# Altium footprint library IPC-7355 QFP_Shrink_Sq_50P_Side_M.PcbLib: 26 footprints (part 1 of 3)
Each footprint in its own frame and in the unit in brackets; x right, y up, seen from the top. Pads: shape width x height; smd on the part's side, far side on the other; paste and mask are expansions set on the pad; w line width, h text height; cw(c..) or ccw(c..) is an arc to the next point about the centre after c.
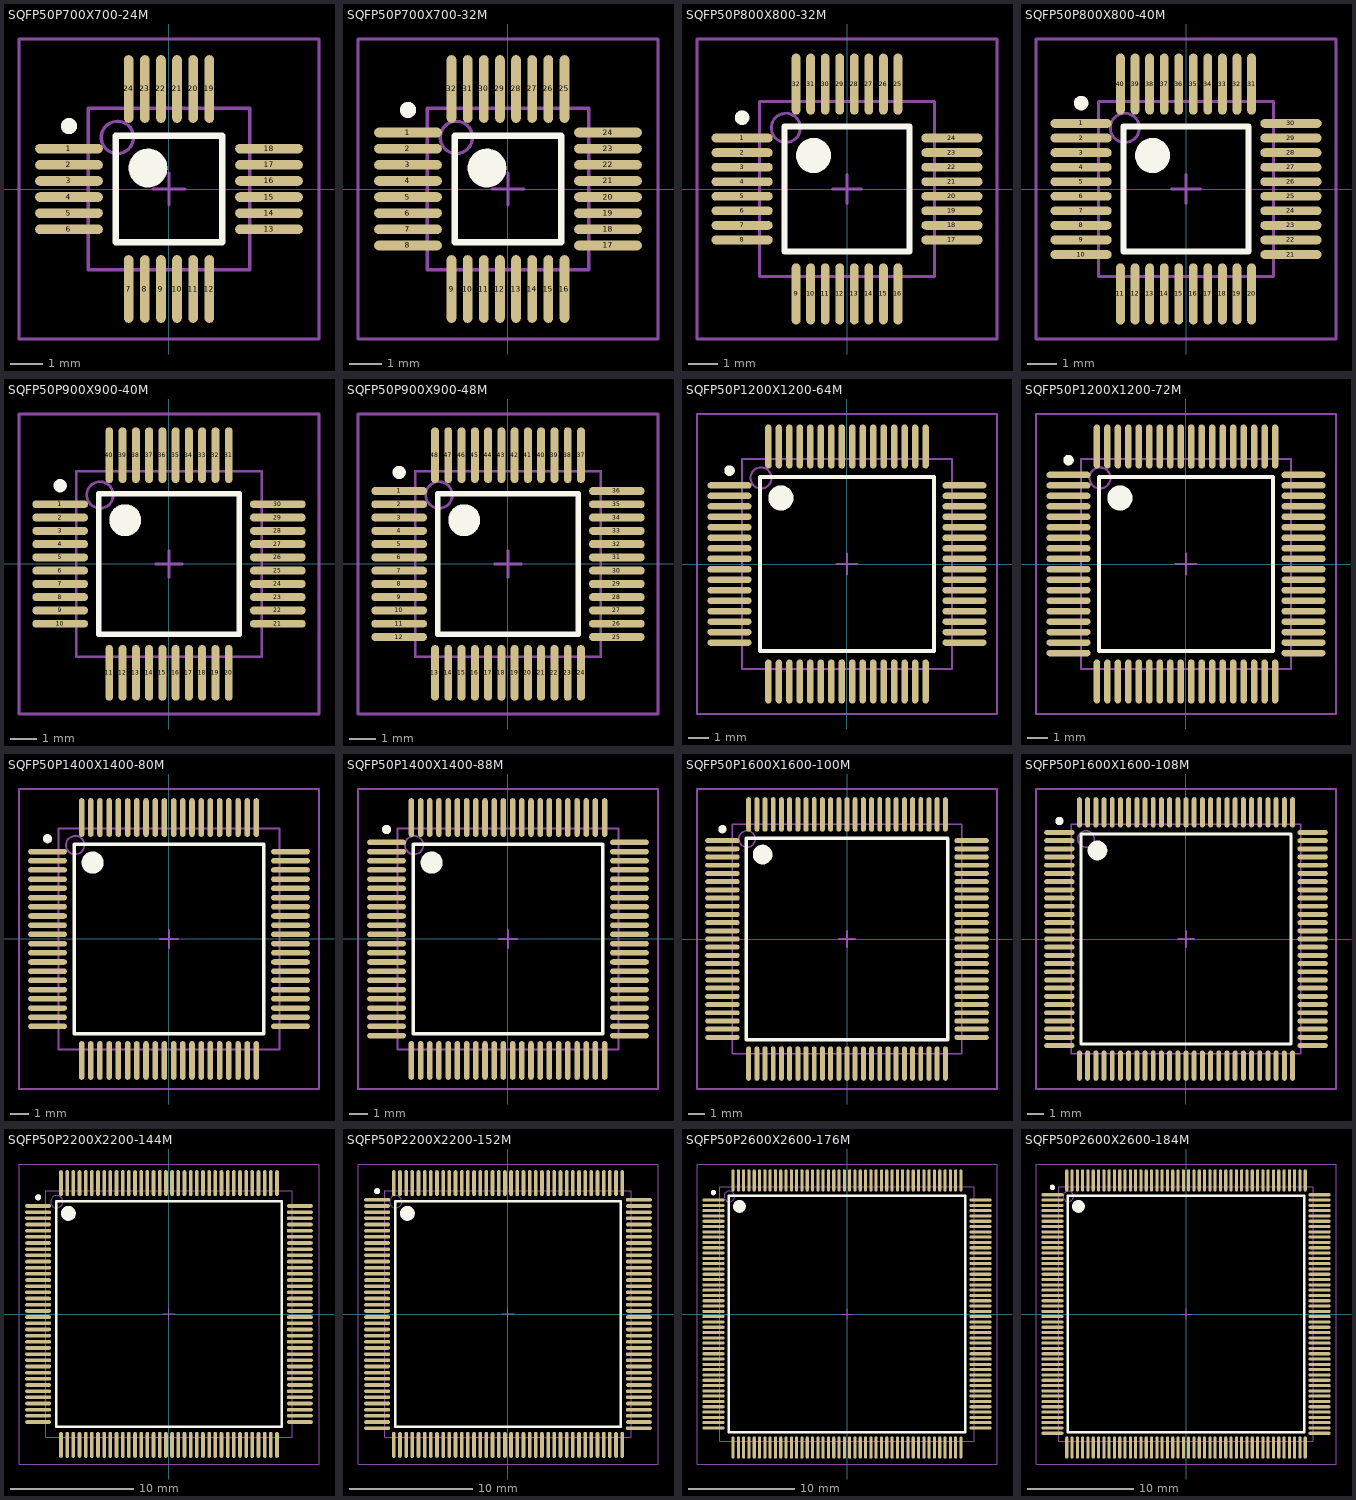
[diagram p0: the footprints below, top view; thin cyan lines are the x and y axes]

## SQFP50P700X700-24M [mm] "Shrink QFP, 24-Leads, Body 5x5mm, Pitch 0.5mm, IPC Low Density"
height 1.7
pads (24):
  oval 2.1x0.3 smd: 1(-3.1,1.25) 2(-3.1,0.75) 3(-3.1,0.25) 4(-3.1,-0.25) 5(-3.1,-0.75) 6(-3.1,-1.25) 13(3.1,-1.25) 14(3.1,-0.75) 15(3.1,-0.25) 16(3.1,0.25) 17(3.1,0.75) 18(3.1,1.25)
  oval 0.3x2.1 smd: 7(-1.25,-3.1) 8(-0.75,-3.1) 9(-0.25,-3.1) 10(0.25,-3.1) 11(0.75,-3.1) 12(1.25,-3.1) 19(1.25,3.1) 20(0.75,3.1) 21(0.25,3.1) 22(-0.25,3.1) 23(-0.75,3.1) 24(-1.25,3.1)
Top Overlay:
  circle w0.6: c-0.65,0.65 r0.3
  circle w0.25: c-3.1,1.95 r0.125
  lines w0.2: -1.65,-1.65 1.65,-1.65 1.65,1.65 -1.65,1.65 -1.65,-1.65
Mechanical 13:
  circle w0.1: c-1.6,1.6 r0.5
  lines w0.1: -2.5,-2.5 2.5,-2.5 2.5,2.5 -2.5,2.5 -2.5,-2.5
Mechanical 15:
  lines w0.1: -0.5,0 0.5,0 ; 0,-0.5 0,0.5 ; -4.65,-4.65 4.65,-4.65 4.65,4.65 -4.65,4.65 -4.65,-4.65
3D body: height 1.7, standoff 0, extent -2.5,-2.5 2.5,2.5

## SQFP50P700X700-32M [mm] "Shrink QFP, 32-Leads, Body 5x5mm, Pitch 0.5mm, IPC Low Density"
height 1.7
pads (32):
  oval 2.1x0.3 smd: 1(-3.1,1.75) 2(-3.1,1.25) 3(-3.1,0.75) 4(-3.1,0.25) 5(-3.1,-0.25) 6(-3.1,-0.75) 7(-3.1,-1.25) 8(-3.1,-1.75) 17(3.1,-1.75) 18(3.1,-1.25) 19(3.1,-0.75) 20(3.1,-0.25) 21(3.1,0.25) 22(3.1,0.75) 23(3.1,1.25) 24(3.1,1.75)
  oval 0.3x2.1 smd: 9(-1.75,-3.1) 10(-1.25,-3.1) 11(-0.75,-3.1) 12(-0.25,-3.1) 13(0.25,-3.1) 14(0.75,-3.1) 15(1.25,-3.1) 16(1.75,-3.1) 25(1.75,3.1) 26(1.25,3.1) 27(0.75,3.1) 28(0.25,3.1) 29(-0.25,3.1) 30(-0.75,3.1) 31(-1.25,3.1) 32(-1.75,3.1)
Top Overlay:
  circle w0.6: c-0.65,0.65 r0.3
  circle w0.25: c-3.1,2.45 r0.125
  lines w0.2: -1.65,-1.65 1.65,-1.65 1.65,1.65 -1.65,1.65 -1.65,-1.65
Mechanical 13:
  circle w0.1: c-1.6,1.6 r0.5
  lines w0.1: -2.5,-2.5 2.5,-2.5 2.5,2.5 -2.5,2.5 -2.5,-2.5
Mechanical 15:
  lines w0.1: -0.5,0 0.5,0 ; 0,-0.5 0,0.5 ; -4.65,-4.65 4.65,-4.65 4.65,4.65 -4.65,4.65 -4.65,-4.65
3D body: height 1.7, standoff 0, extent -2.5,-2.5 2.5,2.5

## SQFP50P800X800-32M [mm] "Shrink QFP, 32-Leads, Body 6x6mm, Pitch 0.5mm, IPC Low Density"
height 1.7
pads (32):
  oval 2.1x0.3 smd: 1(-3.6,1.75) 2(-3.6,1.25) 3(-3.6,0.75) 4(-3.6,0.25) 5(-3.6,-0.25) 6(-3.6,-0.75) 7(-3.6,-1.25) 8(-3.6,-1.75) 17(3.6,-1.75) 18(3.6,-1.25) 19(3.6,-0.75) 20(3.6,-0.25) 21(3.6,0.25) 22(3.6,0.75) 23(3.6,1.25) 24(3.6,1.75)
  oval 0.3x2.1 smd: 9(-1.75,-3.6) 10(-1.25,-3.6) 11(-0.75,-3.6) 12(-0.25,-3.6) 13(0.25,-3.6) 14(0.75,-3.6) 15(1.25,-3.6) 16(1.75,-3.6) 25(1.75,3.6) 26(1.25,3.6) 27(0.75,3.6) 28(0.25,3.6) 29(-0.25,3.6) 30(-0.75,3.6) 31(-1.25,3.6) 32(-1.75,3.6)
Top Overlay:
  circle w0.6: c-1.15,1.15 r0.3
  circle w0.25: c-3.6,2.45 r0.125
  lines w0.2: -2.15,-2.15 2.15,-2.15 2.15,2.15 -2.15,2.15 -2.15,-2.15
Mechanical 13:
  circle w0.1: c-2.1,2.1 r0.5
  lines w0.1: -3,-3 3,-3 3,3 -3,3 -3,-3
Mechanical 15:
  lines w0.1: -0.5,0 0.5,0 ; 0,-0.5 0,0.5 ; -5.15,-5.15 5.15,-5.15 5.15,5.15 -5.15,5.15 -5.15,-5.15
3D body: height 1.7, standoff 0, extent -3,-3 3,3

## SQFP50P800X800-40M [mm] "Shrink QFP, 40-Leads, Body 6x6mm, Pitch 0.5mm, IPC Low Density"
height 1.7
pads (40):
  oval 2.1x0.3 smd: 1(-3.6,2.25) 2(-3.6,1.75) 3(-3.6,1.25) 4(-3.6,0.75) 5(-3.6,0.25) 6(-3.6,-0.25) 7(-3.6,-0.75) 8(-3.6,-1.25) 9(-3.6,-1.75) 10(-3.6,-2.25) 21(3.6,-2.25) 22(3.6,-1.75) 23(3.6,-1.25) 24(3.6,-0.75) 25(3.6,-0.25) 26(3.6,0.25) 27(3.6,0.75) 28(3.6,1.25) 29(3.6,1.75) 30(3.6,2.25)
  oval 0.3x2.1 smd: 11(-2.25,-3.6) 12(-1.75,-3.6) 13(-1.25,-3.6) 14(-0.75,-3.6) 15(-0.25,-3.6) 16(0.25,-3.6) 17(0.75,-3.6) 18(1.25,-3.6) 19(1.75,-3.6) 20(2.25,-3.6) 31(2.25,3.6) 32(1.75,3.6) 33(1.25,3.6) 34(0.75,3.6) 35(0.25,3.6) 36(-0.25,3.6) 37(-0.75,3.6) 38(-1.25,3.6) 39(-1.75,3.6) 40(-2.25,3.6)
Top Overlay:
  circle w0.6: c-1.15,1.15 r0.3
  circle w0.25: c-3.6,2.95 r0.125
  lines w0.2: -2.15,-2.15 2.15,-2.15 2.15,2.15 -2.15,2.15 -2.15,-2.15
Mechanical 13:
  circle w0.1: c-2.1,2.1 r0.5
  lines w0.1: -3,-3 3,-3 3,3 -3,3 -3,-3
Mechanical 15:
  lines w0.1: -0.5,0 0.5,0 ; 0,-0.5 0,0.5 ; -5.15,-5.15 5.15,-5.15 5.15,5.15 -5.15,5.15 -5.15,-5.15
3D body: height 1.7, standoff 0, extent -3,-3 3,3

## SQFP50P900X900-40M [mm] "Shrink QFP, 40-Leads, Body 7x7mm, Pitch 0.5mm, IPC Low Density"
height 1.7
pads (40):
  oval 2.1x0.3 smd: 1(-4.1,2.25) 2(-4.1,1.75) 3(-4.1,1.25) 4(-4.1,0.75) 5(-4.1,0.25) 6(-4.1,-0.25) 7(-4.1,-0.75) 8(-4.1,-1.25) 9(-4.1,-1.75) 10(-4.1,-2.25) 21(4.1,-2.25) 22(4.1,-1.75) 23(4.1,-1.25) 24(4.1,-0.75) 25(4.1,-0.25) 26(4.1,0.25) 27(4.1,0.75) 28(4.1,1.25) 29(4.1,1.75) 30(4.1,2.25)
  oval 0.3x2.1 smd: 11(-2.25,-4.1) 12(-1.75,-4.1) 13(-1.25,-4.1) 14(-0.75,-4.1) 15(-0.25,-4.1) 16(0.25,-4.1) 17(0.75,-4.1) 18(1.25,-4.1) 19(1.75,-4.1) 20(2.25,-4.1) 31(2.25,4.1) 32(1.75,4.1) 33(1.25,4.1) 34(0.75,4.1) 35(0.25,4.1) 36(-0.25,4.1) 37(-0.75,4.1) 38(-1.25,4.1) 39(-1.75,4.1) 40(-2.25,4.1)
Top Overlay:
  circle w0.6: c-1.65,1.65 r0.3
  circle w0.25: c-4.1,2.95 r0.125
  lines w0.2: -2.65,-2.65 2.65,-2.65 2.65,2.65 -2.65,2.65 -2.65,-2.65
Mechanical 13:
  circle w0.1: c-2.6,2.6 r0.5
  lines w0.1: -3.5,-3.5 3.5,-3.5 3.5,3.5 -3.5,3.5 -3.5,-3.5
Mechanical 15:
  lines w0.1: -0.5,0 0.5,0 ; 0,-0.5 0,0.5 ; -5.65,-5.65 5.65,-5.65 5.65,5.65 -5.65,5.65 -5.65,-5.65
3D body: height 1.7, standoff 0, extent -3.5,-3.5 3.5,3.5

## SQFP50P900X900-48M [mm] "Shrink QFP, 48-Leads, Body 7x7mm, Pitch 0.5mm, IPC Low Density"
height 1.7
pads (48):
  oval 2.1x0.3 smd: 1(-4.1,2.75) 2(-4.1,2.25) 3(-4.1,1.75) 4(-4.1,1.25) 5(-4.1,0.75) 6(-4.1,0.25) 7(-4.1,-0.25) 8(-4.1,-0.75) 9(-4.1,-1.25) 10(-4.1,-1.75) 11(-4.1,-2.25) 12(-4.1,-2.75) 25(4.1,-2.75) 26(4.1,-2.25) 27(4.1,-1.75) 28(4.1,-1.25) 29(4.1,-0.75) 30(4.1,-0.25) 31(4.1,0.25) 32(4.1,0.75) 33(4.1,1.25) 34(4.1,1.75) 35(4.1,2.25) 36(4.1,2.75)
  oval 0.3x2.1 smd: 13(-2.75,-4.1) 14(-2.25,-4.1) 15(-1.75,-4.1) 16(-1.25,-4.1) 17(-0.75,-4.1) 18(-0.25,-4.1) 19(0.25,-4.1) 20(0.75,-4.1) 21(1.25,-4.1) 22(1.75,-4.1) 23(2.25,-4.1) 24(2.75,-4.1) 37(2.75,4.1) 38(2.25,4.1) 39(1.75,4.1) 40(1.25,4.1) 41(0.75,4.1) 42(0.25,4.1) 43(-0.25,4.1) 44(-0.75,4.1) 45(-1.25,4.1) 46(-1.75,4.1) 47(-2.25,4.1) 48(-2.75,4.1)
Top Overlay:
  circle w0.6: c-1.65,1.65 r0.3
  circle w0.25: c-4.1,3.45 r0.125
  lines w0.2: -2.65,-2.65 2.65,-2.65 2.65,2.65 -2.65,2.65 -2.65,-2.65
Mechanical 13:
  circle w0.1: c-2.6,2.6 r0.5
  lines w0.1: -3.5,-3.5 3.5,-3.5 3.5,3.5 -3.5,3.5 -3.5,-3.5
Mechanical 15:
  lines w0.1: -0.5,0 0.5,0 ; 0,-0.5 0,0.5 ; -5.65,-5.65 5.65,-5.65 5.65,5.65 -5.65,5.65 -5.65,-5.65
3D body: height 1.7, standoff 0, extent -3.5,-3.5 3.5,3.5

## SQFP50P1200X1200-64M [mm] "Shrink QFP, 64-Leads, Body 10x10mm, Pitch 0.5mm, IPC Low Density"
height 2.2
pads (64):
  oval 2.1x0.3 smd: 1(-5.6,3.75) 2(-5.6,3.25) 3(-5.6,2.75) 4(-5.6,2.25) 5(-5.6,1.75) 6(-5.6,1.25) 7(-5.6,0.75) 8(-5.6,0.25) 9(-5.6,-0.25) 10(-5.6,-0.75) 11(-5.6,-1.25) 12(-5.6,-1.75) 13(-5.6,-2.25) 14(-5.6,-2.75) 15(-5.6,-3.25) 16(-5.6,-3.75) 33(5.6,-3.75) 34(5.6,-3.25) 35(5.6,-2.75) 36(5.6,-2.25) 37(5.6,-1.75) 38(5.6,-1.25) 39(5.6,-0.75) 40(5.6,-0.25) 41(5.6,0.25) 42(5.6,0.75) 43(5.6,1.25) 44(5.6,1.75) 45(5.6,2.25) 46(5.6,2.75) 47(5.6,3.25) 48(5.6,3.75)
  oval 0.3x2.1 smd: 17(-3.75,-5.6) 18(-3.25,-5.6) 19(-2.75,-5.6) 20(-2.25,-5.6) 21(-1.75,-5.6) 22(-1.25,-5.6) 23(-0.75,-5.6) 24(-0.25,-5.6) 25(0.25,-5.6) 26(0.75,-5.6) 27(1.25,-5.6) 28(1.75,-5.6) 29(2.25,-5.6) 30(2.75,-5.6) 31(3.25,-5.6) 32(3.75,-5.6) 49(3.75,5.6) 50(3.25,5.6) 51(2.75,5.6) 52(2.25,5.6) 53(1.75,5.6) 54(1.25,5.6) 55(0.75,5.6) 56(0.25,5.6) 57(-0.25,5.6) 58(-0.75,5.6) 59(-1.25,5.6) 60(-1.75,5.6) 61(-2.25,5.6) 62(-2.75,5.6) 63(-3.25,5.6) 64(-3.75,5.6)
Top Overlay:
  circle w0.6: c-3.15,3.15 r0.3
  circle w0.25: c-5.6,4.45 r0.125
  lines w0.2: -4.15,-4.15 4.15,-4.15 4.15,4.15 -4.15,4.15 -4.15,-4.15
Mechanical 13:
  circle w0.1: c-4.1,4.1 r0.5
  lines w0.1: -5,-5 5,-5 5,5 -5,5 -5,-5
Mechanical 15:
  lines w0.1: -0.5,0 0.5,0 ; 0,-0.5 0,0.5 ; -7.15,-7.15 7.15,-7.15 7.15,7.15 -7.15,7.15 -7.15,-7.15
3D body: height 2.2, standoff 0, extent -5,-5 5,5

## SQFP50P1200X1200-72M [mm] "Shrink QFP, 72-Leads, Body 10x10mm, Pitch 0.5mm, IPC Low Density"
height 2.2
pads (72):
  oval 2.1x0.3 smd: 1(-5.6,4.25) 2(-5.6,3.75) 3(-5.6,3.25) 4(-5.6,2.75) 5(-5.6,2.25) 6(-5.6,1.75) 7(-5.6,1.25) 8(-5.6,0.75) 9(-5.6,0.25) 10(-5.6,-0.25) 11(-5.6,-0.75) 12(-5.6,-1.25) 13(-5.6,-1.75) 14(-5.6,-2.25) 15(-5.6,-2.75) 16(-5.6,-3.25) 17(-5.6,-3.75) 18(-5.6,-4.25) 37(5.6,-4.25) 38(5.6,-3.75) 39(5.6,-3.25) 40(5.6,-2.75) 41(5.6,-2.25) 42(5.6,-1.75) 43(5.6,-1.25) 44(5.6,-0.75) 45(5.6,-0.25) 46(5.6,0.25) 47(5.6,0.75) 48(5.6,1.25) 49(5.6,1.75) 50(5.6,2.25) 51(5.6,2.75) 52(5.6,3.25) 53(5.6,3.75) 54(5.6,4.25)
  oval 0.3x2.1 smd: 19(-4.25,-5.6) 20(-3.75,-5.6) 21(-3.25,-5.6) 22(-2.75,-5.6) 23(-2.25,-5.6) 24(-1.75,-5.6) 25(-1.25,-5.6) 26(-0.75,-5.6) 27(-0.25,-5.6) 28(0.25,-5.6) 29(0.75,-5.6) 30(1.25,-5.6) 31(1.75,-5.6) 32(2.25,-5.6) 33(2.75,-5.6) 34(3.25,-5.6) 35(3.75,-5.6) 36(4.25,-5.6) 55(4.25,5.6) 56(3.75,5.6) 57(3.25,5.6) 58(2.75,5.6) 59(2.25,5.6) 60(1.75,5.6) 61(1.25,5.6) 62(0.75,5.6) 63(0.25,5.6) 64(-0.25,5.6) 65(-0.75,5.6) 66(-1.25,5.6) 67(-1.75,5.6) 68(-2.25,5.6) 69(-2.75,5.6) 70(-3.25,5.6) 71(-3.75,5.6) 72(-4.25,5.6)
Top Overlay:
  circle w0.6: c-3.15,3.15 r0.3
  circle w0.25: c-5.6,4.95 r0.125
  lines w0.2: -4.15,-4.15 4.15,-4.15 4.15,4.15 -4.15,4.15 -4.15,-4.15
Mechanical 13:
  circle w0.1: c-4.1,4.1 r0.5
  lines w0.1: -5,-5 5,-5 5,5 -5,5 -5,-5
Mechanical 15:
  lines w0.1: -0.5,0 0.5,0 ; 0,-0.5 0,0.5 ; -7.15,-7.15 7.15,-7.15 7.15,7.15 -7.15,7.15 -7.15,-7.15
3D body: height 2.2, standoff 0, extent -5,-5 5,5

## SQFP50P1400X1400-80M [mm] "Shrink QFP, 80-Leads, Body 12x12mm, Pitch 0.5mm, IPC Low Density"
height 2.2
pads (80):
  oval 2.1x0.3 smd: 1(-6.6,4.75) 2(-6.6,4.25) 3(-6.6,3.75) 4(-6.6,3.25) 5(-6.6,2.75) 6(-6.6,2.25) 7(-6.6,1.75) 8(-6.6,1.25) 9(-6.6,0.75) 10(-6.6,0.25) 11(-6.6,-0.25) 12(-6.6,-0.75) 13(-6.6,-1.25) 14(-6.6,-1.75) 15(-6.6,-2.25) 16(-6.6,-2.75) 17(-6.6,-3.25) 18(-6.6,-3.75) 19(-6.6,-4.25) 20(-6.6,-4.75) 41(6.6,-4.75) 42(6.6,-4.25) 43(6.6,-3.75) 44(6.6,-3.25) 45(6.6,-2.75) 46(6.6,-2.25) 47(6.6,-1.75) 48(6.6,-1.25) 49(6.6,-0.75) 50(6.6,-0.25) 51(6.6,0.25) 52(6.6,0.75) 53(6.6,1.25) 54(6.6,1.75) 55(6.6,2.25) 56(6.6,2.75) 57(6.6,3.25) 58(6.6,3.75) 59(6.6,4.25) 60(6.6,4.75)
  oval 0.3x2.1 smd: 21(-4.75,-6.6) 22(-4.25,-6.6) 23(-3.75,-6.6) 24(-3.25,-6.6) 25(-2.75,-6.6) 26(-2.25,-6.6) 27(-1.75,-6.6) 28(-1.25,-6.6) 29(-0.75,-6.6) 30(-0.25,-6.6) 31(0.25,-6.6) 32(0.75,-6.6) 33(1.25,-6.6) 34(1.75,-6.6) 35(2.25,-6.6) 36(2.75,-6.6) 37(3.25,-6.6) 38(3.75,-6.6) 39(4.25,-6.6) 40(4.75,-6.6) 61(4.75,6.6) 62(4.25,6.6) 63(3.75,6.6) 64(3.25,6.6) 65(2.75,6.6) 66(2.25,6.6) 67(1.75,6.6) 68(1.25,6.6) 69(0.75,6.6) 70(0.25,6.6) 71(-0.25,6.6) 72(-0.75,6.6) 73(-1.25,6.6) 74(-1.75,6.6) 75(-2.25,6.6) 76(-2.75,6.6) 77(-3.25,6.6) 78(-3.75,6.6) 79(-4.25,6.6) 80(-4.75,6.6)
Top Overlay:
  circle w0.6: c-4.15,4.15 r0.3
  circle w0.25: c-6.6,5.45 r0.125
  lines w0.2: -5.15,-5.15 5.15,-5.15 5.15,5.15 -5.15,5.15 -5.15,-5.15
Mechanical 13:
  circle w0.1: c-5.1,5.1 r0.5
  lines w0.1: -6,-6 6,-6 6,6 -6,6 -6,-6
Mechanical 15:
  lines w0.1: -0.5,0 0.5,0 ; 0,-0.5 0,0.5 ; -8.15,-8.15 8.15,-8.15 8.15,8.15 -8.15,8.15 -8.15,-8.15
3D body: height 2.2, standoff 0, extent -6,-6 6,6

## SQFP50P1400X1400-88M [mm] "Shrink QFP, 88-Leads, Body 12x12mm, Pitch 0.5mm, IPC Low Density"
height 2.2
pads (88):
  oval 2.1x0.3 smd: 1(-6.6,5.25) 2(-6.6,4.75) 3(-6.6,4.25) 4(-6.6,3.75) 5(-6.6,3.25) 6(-6.6,2.75) 7(-6.6,2.25) 8(-6.6,1.75) 9(-6.6,1.25) 10(-6.6,0.75) 11(-6.6,0.25) 12(-6.6,-0.25) 13(-6.6,-0.75) 14(-6.6,-1.25) 15(-6.6,-1.75) 16(-6.6,-2.25) 17(-6.6,-2.75) 18(-6.6,-3.25) 19(-6.6,-3.75) 20(-6.6,-4.25) 21(-6.6,-4.75) 22(-6.6,-5.25) 45(6.6,-5.25) 46(6.6,-4.75) 47(6.6,-4.25) 48(6.6,-3.75) 49(6.6,-3.25) 50(6.6,-2.75) 51(6.6,-2.25) 52(6.6,-1.75) 53(6.6,-1.25) 54(6.6,-0.75) 55(6.6,-0.25) 56(6.6,0.25) 57(6.6,0.75) 58(6.6,1.25) 59(6.6,1.75) 60(6.6,2.25) 61(6.6,2.75) 62(6.6,3.25) 63(6.6,3.75) 64(6.6,4.25) 65(6.6,4.75) 66(6.6,5.25)
  oval 0.3x2.1 smd: 23(-5.25,-6.6) 24(-4.75,-6.6) 25(-4.25,-6.6) 26(-3.75,-6.6) 27(-3.25,-6.6) 28(-2.75,-6.6) 29(-2.25,-6.6) 30(-1.75,-6.6) 31(-1.25,-6.6) 32(-0.75,-6.6) 33(-0.25,-6.6) 34(0.25,-6.6) 35(0.75,-6.6) 36(1.25,-6.6) 37(1.75,-6.6) 38(2.25,-6.6) 39(2.75,-6.6) 40(3.25,-6.6) 41(3.75,-6.6) 42(4.25,-6.6) 43(4.75,-6.6) 44(5.25,-6.6) 67(5.25,6.6) 68(4.75,6.6) 69(4.25,6.6) 70(3.75,6.6) 71(3.25,6.6) 72(2.75,6.6) 73(2.25,6.6) 74(1.75,6.6) 75(1.25,6.6) 76(0.75,6.6) 77(0.25,6.6) 78(-0.25,6.6) 79(-0.75,6.6) 80(-1.25,6.6) 81(-1.75,6.6) 82(-2.25,6.6) 83(-2.75,6.6) 84(-3.25,6.6) 85(-3.75,6.6) 86(-4.25,6.6) 87(-4.75,6.6) 88(-5.25,6.6)
Top Overlay:
  circle w0.6: c-4.15,4.15 r0.3
  circle w0.25: c-6.6,5.95 r0.125
  lines w0.2: -5.15,-5.15 5.15,-5.15 5.15,5.15 -5.15,5.15 -5.15,-5.15
Mechanical 13:
  circle w0.1: c-5.1,5.1 r0.5
  lines w0.1: -6,-6 6,-6 6,6 -6,6 -6,-6
Mechanical 15:
  lines w0.1: -0.5,0 0.5,0 ; 0,-0.5 0,0.5 ; -8.15,-8.15 8.15,-8.15 8.15,8.15 -8.15,8.15 -8.15,-8.15
3D body: height 2.2, standoff 0, extent -6,-6 6,6

## SQFP50P1600X1600-100M [mm] "Shrink QFP, 100-Leads, Body 14x14mm, Pitch 0.5mm, IPC Low Density"
height 2.2
pads (100):
  oval 2.1x0.3 smd: 1(-7.6,6) 2(-7.6,5.5) 3(-7.6,5) 4(-7.6,4.5) 5(-7.6,4) 6(-7.6,3.5) 7(-7.6,3) 8(-7.6,2.5) 9(-7.6,2) 10(-7.6,1.5) 11(-7.6,1) 12(-7.6,0.5) 13(-7.6,0) 14(-7.6,-0.5) 15(-7.6,-1) 16(-7.6,-1.5) 17(-7.6,-2) 18(-7.6,-2.5) 19(-7.6,-3) 20(-7.6,-3.5) 21(-7.6,-4) 22(-7.6,-4.5) 23(-7.6,-5) 24(-7.6,-5.5) 25(-7.6,-6) 51(7.6,-6) 52(7.6,-5.5) 53(7.6,-5) 54(7.6,-4.5) 55(7.6,-4) 56(7.6,-3.5) 57(7.6,-3) 58(7.6,-2.5) 59(7.6,-2) 60(7.6,-1.5) 61(7.6,-1) 62(7.6,-0.5) 63(7.6,0) 64(7.6,0.5) 65(7.6,1) 66(7.6,1.5) 67(7.6,2) 68(7.6,2.5) 69(7.6,3) 70(7.6,3.5) 71(7.6,4) 72(7.6,4.5) 73(7.6,5) 74(7.6,5.5) 75(7.6,6)
  oval 0.3x2.1 smd: 26(-6,-7.6) 27(-5.5,-7.6) 28(-5,-7.6) 29(-4.5,-7.6) 30(-4,-7.6) 31(-3.5,-7.6) 32(-3,-7.6) 33(-2.5,-7.6) 34(-2,-7.6) 35(-1.5,-7.6) 36(-1,-7.6) 37(-0.5,-7.6) 38(0,-7.6) 39(0.5,-7.6) 40(1,-7.6) 41(1.5,-7.6) 42(2,-7.6) 43(2.5,-7.6) 44(3,-7.6) 45(3.5,-7.6) 46(4,-7.6) 47(4.5,-7.6) 48(5,-7.6) 49(5.5,-7.6) 50(6,-7.6) 76(6,7.6) 77(5.5,7.6) 78(5,7.6) 79(4.5,7.6) 80(4,7.6) 81(3.5,7.6) 82(3,7.6) 83(2.5,7.6) 84(2,7.6) 85(1.5,7.6) 86(1,7.6) 87(0.5,7.6) 88(0,7.6) 89(-0.5,7.6) 90(-1,7.6) 91(-1.5,7.6) 92(-2,7.6) 93(-2.5,7.6) 94(-3,7.6) 95(-3.5,7.6) 96(-4,7.6) 97(-4.5,7.6) 98(-5,7.6) 99(-5.5,7.6) 100(-6,7.6)
Top Overlay:
  circle w0.6: c-5.15,5.15 r0.3
  circle w0.25: c-7.6,6.7 r0.125
  lines w0.2: -6.15,-6.15 6.15,-6.15 6.15,6.15 -6.15,6.15 -6.15,-6.15
Mechanical 13:
  circle w0.1: c-6.1,6.1 r0.5
  lines w0.1: -7,-7 7,-7 7,7 -7,7 -7,-7
Mechanical 15:
  lines w0.1: -0.5,0 0.5,0 ; 0,-0.5 0,0.5 ; -9.15,-9.15 9.15,-9.15 9.15,9.15 -9.15,9.15 -9.15,-9.15
3D body: height 2.2, standoff 0, extent -7,-7 7,7

## SQFP50P1600X1600-108M [mm] "Shrink QFP, 108-Leads, Body 14x14mm, Pitch 0.5mm, IPC Low Density"
height 2.2
pads (108):
  oval 1.85x0.3 smd: 1(-7.725,6.5) 2(-7.725,6) 3(-7.725,5.5) 4(-7.725,5) 5(-7.725,4.5) 6(-7.725,4) 7(-7.725,3.5) 8(-7.725,3) 9(-7.725,2.5) 10(-7.725,2) 11(-7.725,1.5) 12(-7.725,1) 13(-7.725,0.5) 14(-7.725,0) 15(-7.725,-0.5) 16(-7.725,-1) 17(-7.725,-1.5) 18(-7.725,-2) 19(-7.725,-2.5) 20(-7.725,-3) 21(-7.725,-3.5) 22(-7.725,-4) 23(-7.725,-4.5) 24(-7.725,-5) 25(-7.725,-5.5) 26(-7.725,-6) 27(-7.725,-6.5) 55(7.725,-6.5) 56(7.725,-6) 57(7.725,-5.5) 58(7.725,-5) 59(7.725,-4.5) 60(7.725,-4) 61(7.725,-3.5) 62(7.725,-3) 63(7.725,-2.5) 64(7.725,-2) 65(7.725,-1.5) 66(7.725,-1) 67(7.725,-0.5) 68(7.725,0) 69(7.725,0.5) 70(7.725,1) 71(7.725,1.5) 72(7.725,2) 73(7.725,2.5) 74(7.725,3) 75(7.725,3.5) 76(7.725,4) 77(7.725,4.5) 78(7.725,5) 79(7.725,5.5) 80(7.725,6) 81(7.725,6.5)
  oval 0.3x1.85 smd: 28(-6.5,-7.725) 29(-6,-7.725) 30(-5.5,-7.725) 31(-5,-7.725) 32(-4.5,-7.725) 33(-4,-7.725) 34(-3.5,-7.725) 35(-3,-7.725) 36(-2.5,-7.725) 37(-2,-7.725) 38(-1.5,-7.725) 39(-1,-7.725) 40(-0.5,-7.725) 41(0,-7.725) 42(0.5,-7.725) 43(1,-7.725) 44(1.5,-7.725) 45(2,-7.725) 46(2.5,-7.725) 47(3,-7.725) 48(3.5,-7.725) 49(4,-7.725) 50(4.5,-7.725) 51(5,-7.725) 52(5.5,-7.725) 53(6,-7.725) 54(6.5,-7.725) 82(6.5,7.725) 83(6,7.725) 84(5.5,7.725) 85(5,7.725) 86(4.5,7.725) 87(4,7.725) 88(3.5,7.725) 89(3,7.725) 90(2.5,7.725) 91(2,7.725) 92(1.5,7.725) 93(1,7.725) 94(0.5,7.725) 95(0,7.725) 96(-0.5,7.725) 97(-1,7.725) 98(-1.5,7.725) 99(-2,7.725) 100(-2.5,7.725) 101(-3,7.725) 102(-3.5,7.725) 103(-4,7.725) 104(-4.5,7.725) 105(-5,7.725) 106(-5.5,7.725) 107(-6,7.725) 108(-6.5,7.725)
Top Overlay:
  circle w0.6: c-5.4,5.4 r0.3
  circle w0.25: c-7.725,7.2 r0.125
  lines w0.2: -6.4,-6.4 6.4,-6.4 6.4,6.4 -6.4,6.4 -6.4,-6.4
Mechanical 13:
  circle w0.1: c-6.1,6.1 r0.5
  lines w0.1: -7,-7 7,-7 7,7 -7,7 -7,-7
Mechanical 15:
  lines w0.1: -0.5,0 0.5,0 ; 0,-0.5 0,0.5 ; -9.15,-9.15 9.15,-9.15 9.15,9.15 -9.15,9.15 -9.15,-9.15
3D body: height 2.2, standoff 0, extent -7,-7 7,7

## SQFP50P2200X2200-144M [mm] "Shrink QFP, 144-Leads, Body 20x20mm, Pitch 0.5mm, IPC Low Density"
height 2.7
pads (144):
  oval 2.1x0.3 smd: 1(-10.6,8.75) 2(-10.6,8.25) 3(-10.6,7.75) 4(-10.6,7.25) 5(-10.6,6.75) 6(-10.6,6.25) 7(-10.6,5.75) 8(-10.6,5.25) 9(-10.6,4.75) 10(-10.6,4.25) 11(-10.6,3.75) 12(-10.6,3.25) 13(-10.6,2.75) 14(-10.6,2.25) 15(-10.6,1.75) 16(-10.6,1.25) 17(-10.6,0.75) 18(-10.6,0.25) 19(-10.6,-0.25) 20(-10.6,-0.75) 21(-10.6,-1.25) 22(-10.6,-1.75) 23(-10.6,-2.25) 24(-10.6,-2.75) 25(-10.6,-3.25) 26(-10.6,-3.75) 27(-10.6,-4.25) 28(-10.6,-4.75) 29(-10.6,-5.25) 30(-10.6,-5.75) 31(-10.6,-6.25) 32(-10.6,-6.75) 33(-10.6,-7.25) 34(-10.6,-7.75) 35(-10.6,-8.25) 36(-10.6,-8.75) 73(10.6,-8.75) 74(10.6,-8.25) 75(10.6,-7.75) 76(10.6,-7.25) 77(10.6,-6.75) 78(10.6,-6.25) 79(10.6,-5.75) 80(10.6,-5.25) 81(10.6,-4.75) 82(10.6,-4.25) 83(10.6,-3.75) 84(10.6,-3.25) 85(10.6,-2.75) 86(10.6,-2.25) 87(10.6,-1.75) 88(10.6,-1.25) 89(10.6,-0.75) 90(10.6,-0.25) 91(10.6,0.25) 92(10.6,0.75) 93(10.6,1.25) 94(10.6,1.75) 95(10.6,2.25) 96(10.6,2.75) 97(10.6,3.25) 98(10.6,3.75) 99(10.6,4.25) 100(10.6,4.75) 101(10.6,5.25) 102(10.6,5.75) 103(10.6,6.25) 104(10.6,6.75) 105(10.6,7.25) 106(10.6,7.75) 107(10.6,8.25) 108(10.6,8.75)
  oval 0.3x2.1 smd: 37(-8.75,-10.6) 38(-8.25,-10.6) 39(-7.75,-10.6) 40(-7.25,-10.6) 41(-6.75,-10.6) 42(-6.25,-10.6) 43(-5.75,-10.6) 44(-5.25,-10.6) 45(-4.75,-10.6) 46(-4.25,-10.6) 47(-3.75,-10.6) 48(-3.25,-10.6) 49(-2.75,-10.6) 50(-2.25,-10.6) 51(-1.75,-10.6) 52(-1.25,-10.6) 53(-0.75,-10.6) 54(-0.25,-10.6) 55(0.25,-10.6) 56(0.75,-10.6) 57(1.25,-10.6) 58(1.75,-10.6) 59(2.25,-10.6) 60(2.75,-10.6) 61(3.25,-10.6) 62(3.75,-10.6) 63(4.25,-10.6) 64(4.75,-10.6) 65(5.25,-10.6) 66(5.75,-10.6) 67(6.25,-10.6) 68(6.75,-10.6) 69(7.25,-10.6) 70(7.75,-10.6) 71(8.25,-10.6) 72(8.75,-10.6) 109(8.75,10.6) 110(8.25,10.6) 111(7.75,10.6) 112(7.25,10.6) 113(6.75,10.6) 114(6.25,10.6) 115(5.75,10.6) 116(5.25,10.6) 117(4.75,10.6) 118(4.25,10.6) 119(3.75,10.6) 120(3.25,10.6) 121(2.75,10.6) 122(2.25,10.6) 123(1.75,10.6) 124(1.25,10.6) 125(0.75,10.6) 126(0.25,10.6) 127(-0.25,10.6) 128(-0.75,10.6) 129(-1.25,10.6) 130(-1.75,10.6) 131(-2.25,10.6) 132(-2.75,10.6) 133(-3.25,10.6) 134(-3.75,10.6) 135(-4.25,10.6) 136(-4.75,10.6) 137(-5.25,10.6) 138(-5.75,10.6) 139(-6.25,10.6) 140(-6.75,10.6) 141(-7.25,10.6) 142(-7.75,10.6) 143(-8.25,10.6) 144(-8.75,10.6)
Top Overlay:
  circle w0.6: c-8.15,8.15 r0.3
  circle w0.25: c-10.6,9.45 r0.125
  lines w0.2: -9.15,-9.15 9.15,-9.15 9.15,9.15 -9.15,9.15 -9.15,-9.15
Mechanical 13:
  circle w0.1: c-9.1,9.1 r0.5
  lines w0.1: -10,-10 10,-10 10,10 -10,10 -10,-10
Mechanical 15:
  lines w0.1: -0.5,0 0.5,0 ; 0,-0.5 0,0.5 ; -12.15,-12.15 12.15,-12.15 12.15,12.15 -12.15,12.15 -12.15,-12.15
3D body: height 2.7, standoff 0, extent -10,-10 10,10

## SQFP50P2200X2200-152M [mm] "Shrink QFP, 152-Leads, Body 20x20mm, Pitch 0.5mm, IPC Low Density"
height 2.7
pads (152):
  oval 2.1x0.3 smd: 1(-10.6,9.25) 2(-10.6,8.75) 3(-10.6,8.25) 4(-10.6,7.75) 5(-10.6,7.25) 6(-10.6,6.75) 7(-10.6,6.25) 8(-10.6,5.75) 9(-10.6,5.25) 10(-10.6,4.75) 11(-10.6,4.25) 12(-10.6,3.75) 13(-10.6,3.25) 14(-10.6,2.75) 15(-10.6,2.25) 16(-10.6,1.75) 17(-10.6,1.25) 18(-10.6,0.75) 19(-10.6,0.25) 20(-10.6,-0.25) 21(-10.6,-0.75) 22(-10.6,-1.25) 23(-10.6,-1.75) 24(-10.6,-2.25) 25(-10.6,-2.75) 26(-10.6,-3.25) 27(-10.6,-3.75) 28(-10.6,-4.25) 29(-10.6,-4.75) 30(-10.6,-5.25) 31(-10.6,-5.75) 32(-10.6,-6.25) 33(-10.6,-6.75) 34(-10.6,-7.25) 35(-10.6,-7.75) 36(-10.6,-8.25) 37(-10.6,-8.75) 38(-10.6,-9.25) 77(10.6,-9.25) 78(10.6,-8.75) 79(10.6,-8.25) 80(10.6,-7.75) 81(10.6,-7.25) 82(10.6,-6.75) 83(10.6,-6.25) 84(10.6,-5.75) 85(10.6,-5.25) 86(10.6,-4.75) 87(10.6,-4.25) 88(10.6,-3.75) 89(10.6,-3.25) 90(10.6,-2.75) 91(10.6,-2.25) 92(10.6,-1.75) 93(10.6,-1.25) 94(10.6,-0.75) 95(10.6,-0.25) 96(10.6,0.25) 97(10.6,0.75) 98(10.6,1.25) 99(10.6,1.75) 100(10.6,2.25) 101(10.6,2.75) 102(10.6,3.25) 103(10.6,3.75) 104(10.6,4.25) 105(10.6,4.75) 106(10.6,5.25) 107(10.6,5.75) 108(10.6,6.25) 109(10.6,6.75) 110(10.6,7.25) 111(10.6,7.75) 112(10.6,8.25) 113(10.6,8.75) 114(10.6,9.25)
  oval 0.3x2.1 smd: 39(-9.25,-10.6) 40(-8.75,-10.6) 41(-8.25,-10.6) 42(-7.75,-10.6) 43(-7.25,-10.6) 44(-6.75,-10.6) 45(-6.25,-10.6) 46(-5.75,-10.6) 47(-5.25,-10.6) 48(-4.75,-10.6) 49(-4.25,-10.6) 50(-3.75,-10.6) 51(-3.25,-10.6) 52(-2.75,-10.6) 53(-2.25,-10.6) 54(-1.75,-10.6) 55(-1.25,-10.6) 56(-0.75,-10.6) 57(-0.25,-10.6) 58(0.25,-10.6) 59(0.75,-10.6) 60(1.25,-10.6) 61(1.75,-10.6) 62(2.25,-10.6) 63(2.75,-10.6) 64(3.25,-10.6) 65(3.75,-10.6) 66(4.25,-10.6) 67(4.75,-10.6) 68(5.25,-10.6) 69(5.75,-10.6) 70(6.25,-10.6) 71(6.75,-10.6) 72(7.25,-10.6) 73(7.75,-10.6) 74(8.25,-10.6) 75(8.75,-10.6) 76(9.25,-10.6) 115(9.25,10.6) 116(8.75,10.6) 117(8.25,10.6) 118(7.75,10.6) 119(7.25,10.6) 120(6.75,10.6) 121(6.25,10.6) 122(5.75,10.6) 123(5.25,10.6) 124(4.75,10.6) 125(4.25,10.6) 126(3.75,10.6) 127(3.25,10.6) 128(2.75,10.6) 129(2.25,10.6) 130(1.75,10.6) 131(1.25,10.6) 132(0.75,10.6) 133(0.25,10.6) 134(-0.25,10.6) 135(-0.75,10.6) 136(-1.25,10.6) 137(-1.75,10.6) 138(-2.25,10.6) 139(-2.75,10.6) 140(-3.25,10.6) 141(-3.75,10.6) 142(-4.25,10.6) 143(-4.75,10.6) 144(-5.25,10.6) 145(-5.75,10.6) 146(-6.25,10.6) 147(-6.75,10.6) 148(-7.25,10.6) 149(-7.75,10.6) 150(-8.25,10.6) 151(-8.75,10.6) 152(-9.25,10.6)
Top Overlay:
  circle w0.6: c-8.15,8.15 r0.3
  circle w0.25: c-10.6,9.95 r0.125
  lines w0.2: -9.15,-9.15 9.15,-9.15 9.15,9.15 -9.15,9.15 -9.15,-9.15
Mechanical 13:
  circle w0.1: c-9.1,9.1 r0.5
  lines w0.1: -10,-10 10,-10 10,10 -10,10 -10,-10
Mechanical 15:
  lines w0.1: -0.5,0 0.5,0 ; 0,-0.5 0,0.5 ; -12.15,-12.15 12.15,-12.15 12.15,12.15 -12.15,12.15 -12.15,-12.15
3D body: height 2.7, standoff 0, extent -10,-10 10,10

## SQFP50P2600X2600-176M [mm] "Shrink QFP, 176-Leads, Body 24x24mm, Pitch 0.5mm, IPC Low Density"
height 3.2
pads (176):
  oval 2.1x0.3 smd: 1(-12.6,10.75) 2(-12.6,10.25) 3(-12.6,9.75) 4(-12.6,9.25) 5(-12.6,8.75) 6(-12.6,8.25) 7(-12.6,7.75) 8(-12.6,7.25) 9(-12.6,6.75) 10(-12.6,6.25) 11(-12.6,5.75) 12(-12.6,5.25) 13(-12.6,4.75) 14(-12.6,4.25) 15(-12.6,3.75) 16(-12.6,3.25) 17(-12.6,2.75) 18(-12.6,2.25) 19(-12.6,1.75) 20(-12.6,1.25) 21(-12.6,0.75) 22(-12.6,0.25) 23(-12.6,-0.25) 24(-12.6,-0.75) 25(-12.6,-1.25) 26(-12.6,-1.75) 27(-12.6,-2.25) 28(-12.6,-2.75) 29(-12.6,-3.25) 30(-12.6,-3.75) 31(-12.6,-4.25) 32(-12.6,-4.75) 33(-12.6,-5.25) 34(-12.6,-5.75) 35(-12.6,-6.25) 36(-12.6,-6.75) 37(-12.6,-7.25) 38(-12.6,-7.75) 39(-12.6,-8.25) 40(-12.6,-8.75) 41(-12.6,-9.25) 42(-12.6,-9.75) 43(-12.6,-10.25) 44(-12.6,-10.75) 89(12.6,-10.75) 90(12.6,-10.25) 91(12.6,-9.75) 92(12.6,-9.25) 93(12.6,-8.75) 94(12.6,-8.25) 95(12.6,-7.75) 96(12.6,-7.25) 97(12.6,-6.75) 98(12.6,-6.25) 99(12.6,-5.75) 100(12.6,-5.25) 101(12.6,-4.75) 102(12.6,-4.25) 103(12.6,-3.75) 104(12.6,-3.25) 105(12.6,-2.75) 106(12.6,-2.25) 107(12.6,-1.75) 108(12.6,-1.25) 109(12.6,-0.75) 110(12.6,-0.25) 111(12.6,0.25) 112(12.6,0.75) 113(12.6,1.25) 114(12.6,1.75) 115(12.6,2.25) 116(12.6,2.75) 117(12.6,3.25) 118(12.6,3.75) 119(12.6,4.25) 120(12.6,4.75) 121(12.6,5.25) 122(12.6,5.75) 123(12.6,6.25) 124(12.6,6.75) 125(12.6,7.25) 126(12.6,7.75) 127(12.6,8.25) 128(12.6,8.75) 129(12.6,9.25) 130(12.6,9.75) 131(12.6,10.25) 132(12.6,10.75)
  oval 0.3x2.1 smd: 45(-10.75,-12.6) 46(-10.25,-12.6) 47(-9.75,-12.6) 48(-9.25,-12.6) 49(-8.75,-12.6) 50(-8.25,-12.6) 51(-7.75,-12.6) 52(-7.25,-12.6) 53(-6.75,-12.6) 54(-6.25,-12.6) 55(-5.75,-12.6) 56(-5.25,-12.6) 57(-4.75,-12.6) 58(-4.25,-12.6) 59(-3.75,-12.6) 60(-3.25,-12.6) 61(-2.75,-12.6) 62(-2.25,-12.6) 63(-1.75,-12.6) 64(-1.25,-12.6) 65(-0.75,-12.6) 66(-0.25,-12.6) 67(0.25,-12.6) 68(0.75,-12.6) 69(1.25,-12.6) 70(1.75,-12.6) 71(2.25,-12.6) 72(2.75,-12.6) 73(3.25,-12.6) 74(3.75,-12.6) 75(4.25,-12.6) 76(4.75,-12.6) 77(5.25,-12.6) 78(5.75,-12.6) 79(6.25,-12.6) 80(6.75,-12.6) 81(7.25,-12.6) 82(7.75,-12.6) 83(8.25,-12.6) 84(8.75,-12.6) 85(9.25,-12.6) 86(9.75,-12.6) 87(10.25,-12.6) 88(10.75,-12.6) 133(10.75,12.6) 134(10.25,12.6) 135(9.75,12.6) 136(9.25,12.6) 137(8.75,12.6) 138(8.25,12.6) 139(7.75,12.6) 140(7.25,12.6) 141(6.75,12.6) 142(6.25,12.6) 143(5.75,12.6) 144(5.25,12.6) 145(4.75,12.6) 146(4.25,12.6) 147(3.75,12.6) 148(3.25,12.6) 149(2.75,12.6) 150(2.25,12.6) 151(1.75,12.6) 152(1.25,12.6) 153(0.75,12.6) 154(0.25,12.6) 155(-0.25,12.6) 156(-0.75,12.6) 157(-1.25,12.6) 158(-1.75,12.6) 159(-2.25,12.6) 160(-2.75,12.6) 161(-3.25,12.6) 162(-3.75,12.6) 163(-4.25,12.6) 164(-4.75,12.6) 165(-5.25,12.6) 166(-5.75,12.6) 167(-6.25,12.6) 168(-6.75,12.6) 169(-7.25,12.6) 170(-7.75,12.6) 171(-8.25,12.6) 172(-8.75,12.6) 173(-9.25,12.6) 174(-9.75,12.6) 175(-10.25,12.6) 176(-10.75,12.6)
Top Overlay:
  circle w0.6: c-10.15,10.15 r0.3
  circle w0.25: c-12.6,11.45 r0.125
  lines w0.2: -11.15,-11.15 11.15,-11.15 11.15,11.15 -11.15,11.15 -11.15,-11.15
Mechanical 13:
  circle w0.1: c-11.1,11.1 r0.5
  lines w0.1: -12,-12 12,-12 12,12 -12,12 -12,-12
Mechanical 15:
  lines w0.1: -0.5,0 0.5,0 ; 0,-0.5 0,0.5 ; -14.15,-14.15 14.15,-14.15 14.15,14.15 -14.15,14.15 -14.15,-14.15
3D body: height 3.2, standoff 0, extent -12,-12 12,12

## SQFP50P2600X2600-184M [mm] "Shrink QFP, 184-Leads, Body 24x24mm, Pitch 0.5mm, IPC Low Density"
height 3.2
pads (184):
  oval 2.1x0.3 smd: 1(-12.6,11.25) 2(-12.6,10.75) 3(-12.6,10.25) 4(-12.6,9.75) 5(-12.6,9.25) 6(-12.6,8.75) 7(-12.6,8.25) 8(-12.6,7.75) 9(-12.6,7.25) 10(-12.6,6.75) 11(-12.6,6.25) 12(-12.6,5.75) 13(-12.6,5.25) 14(-12.6,4.75) 15(-12.6,4.25) 16(-12.6,3.75) 17(-12.6,3.25) 18(-12.6,2.75) 19(-12.6,2.25) 20(-12.6,1.75) 21(-12.6,1.25) 22(-12.6,0.75) 23(-12.6,0.25) 24(-12.6,-0.25) 25(-12.6,-0.75) 26(-12.6,-1.25) 27(-12.6,-1.75) 28(-12.6,-2.25) 29(-12.6,-2.75) 30(-12.6,-3.25) 31(-12.6,-3.75) 32(-12.6,-4.25) 33(-12.6,-4.75) 34(-12.6,-5.25) 35(-12.6,-5.75) 36(-12.6,-6.25) 37(-12.6,-6.75) 38(-12.6,-7.25) 39(-12.6,-7.75) 40(-12.6,-8.25) 41(-12.6,-8.75) 42(-12.6,-9.25) 43(-12.6,-9.75) 44(-12.6,-10.25) 45(-12.6,-10.75) 46(-12.6,-11.25) 93(12.6,-11.25) 94(12.6,-10.75) 95(12.6,-10.25) 96(12.6,-9.75) 97(12.6,-9.25) 98(12.6,-8.75) 99(12.6,-8.25) 100(12.6,-7.75) 101(12.6,-7.25) 102(12.6,-6.75) 103(12.6,-6.25) 104(12.6,-5.75) 105(12.6,-5.25) 106(12.6,-4.75) 107(12.6,-4.25) 108(12.6,-3.75) 109(12.6,-3.25) 110(12.6,-2.75) 111(12.6,-2.25) 112(12.6,-1.75) 113(12.6,-1.25) 114(12.6,-0.75) 115(12.6,-0.25) 116(12.6,0.25) 117(12.6,0.75) 118(12.6,1.25) 119(12.6,1.75) 120(12.6,2.25) 121(12.6,2.75) 122(12.6,3.25) 123(12.6,3.75) 124(12.6,4.25) 125(12.6,4.75) 126(12.6,5.25) 127(12.6,5.75) 128(12.6,6.25) 129(12.6,6.75) 130(12.6,7.25) 131(12.6,7.75) 132(12.6,8.25) 133(12.6,8.75) 134(12.6,9.25) 135(12.6,9.75) 136(12.6,10.25) 137(12.6,10.75) 138(12.6,11.25)
  oval 0.3x2.1 smd: 47(-11.25,-12.6) 48(-10.75,-12.6) 49(-10.25,-12.6) 50(-9.75,-12.6) 51(-9.25,-12.6) 52(-8.75,-12.6) 53(-8.25,-12.6) 54(-7.75,-12.6) 55(-7.25,-12.6) 56(-6.75,-12.6) 57(-6.25,-12.6) 58(-5.75,-12.6) 59(-5.25,-12.6) 60(-4.75,-12.6) 61(-4.25,-12.6) 62(-3.75,-12.6) 63(-3.25,-12.6) 64(-2.75,-12.6) 65(-2.25,-12.6) 66(-1.75,-12.6) 67(-1.25,-12.6) 68(-0.75,-12.6) 69(-0.25,-12.6) 70(0.25,-12.6) 71(0.75,-12.6) 72(1.25,-12.6) 73(1.75,-12.6) 74(2.25,-12.6) 75(2.75,-12.6) 76(3.25,-12.6) 77(3.75,-12.6) 78(4.25,-12.6) 79(4.75,-12.6) 80(5.25,-12.6) 81(5.75,-12.6) 82(6.25,-12.6) 83(6.75,-12.6) 84(7.25,-12.6) 85(7.75,-12.6) 86(8.25,-12.6) 87(8.75,-12.6) 88(9.25,-12.6) 89(9.75,-12.6) 90(10.25,-12.6) 91(10.75,-12.6) 92(11.25,-12.6) 139(11.25,12.6) 140(10.75,12.6) 141(10.25,12.6) 142(9.75,12.6) 143(9.25,12.6) 144(8.75,12.6) 145(8.25,12.6) 146(7.75,12.6) 147(7.25,12.6) 148(6.75,12.6) 149(6.25,12.6) 150(5.75,12.6) 151(5.25,12.6) 152(4.75,12.6) 153(4.25,12.6) 154(3.75,12.6) 155(3.25,12.6) 156(2.75,12.6) 157(2.25,12.6) 158(1.75,12.6) 159(1.25,12.6) 160(0.75,12.6) 161(0.25,12.6) 162(-0.25,12.6) 163(-0.75,12.6) 164(-1.25,12.6) 165(-1.75,12.6) 166(-2.25,12.6) 167(-2.75,12.6) 168(-3.25,12.6) 169(-3.75,12.6) 170(-4.25,12.6) 171(-4.75,12.6) 172(-5.25,12.6) 173(-5.75,12.6) 174(-6.25,12.6) 175(-6.75,12.6) 176(-7.25,12.6) 177(-7.75,12.6) 178(-8.25,12.6) 179(-8.75,12.6) 180(-9.25,12.6) 181(-9.75,12.6) 182(-10.25,12.6) 183(-10.75,12.6) 184(-11.25,12.6)
Top Overlay:
  circle w0.6: c-10.15,10.15 r0.3
  circle w0.25: c-12.6,11.95 r0.125
  lines w0.2: -11.15,-11.15 11.15,-11.15 11.15,11.15 -11.15,11.15 -11.15,-11.15
Mechanical 13:
  circle w0.1: c-11.1,11.1 r0.5
  lines w0.1: -12,-12 12,-12 12,12 -12,12 -12,-12
Mechanical 15:
  lines w0.1: -0.5,0 0.5,0 ; 0,-0.5 0,0.5 ; -14.15,-14.15 14.15,-14.15 14.15,14.15 -14.15,14.15 -14.15,-14.15
3D body: height 3.2, standoff 0, extent -12,-12 12,12